# Altium schematic symbol library 0603 332K.Schlib: 1 symbol
Pins are listed as number, name and electrical type; pins without a type are passive.

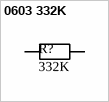
[diagram p0: symbol 0603 332K]

## 0603 332K
designator R?, comment value 332K  (hidden comment: Resistor)
±1% ±100ppm/℃ 332kΩ 0.1W 0603 Chip Resistor - Surface Mount ROHS; LCSC Part #: C23139; JLCPCB Part Type: Extended
footprint RES 0603_1608 (Chip Resistor, 2-Leads, Body 1.60x0.80mm, IPC Medium Density)
pins: 1, 2